# Altium schematic symbol library ALTR-10M08DA-U324.SchLib: 1 symbol
Pins are listed as number, name and electrical type; pins without a type are passive.

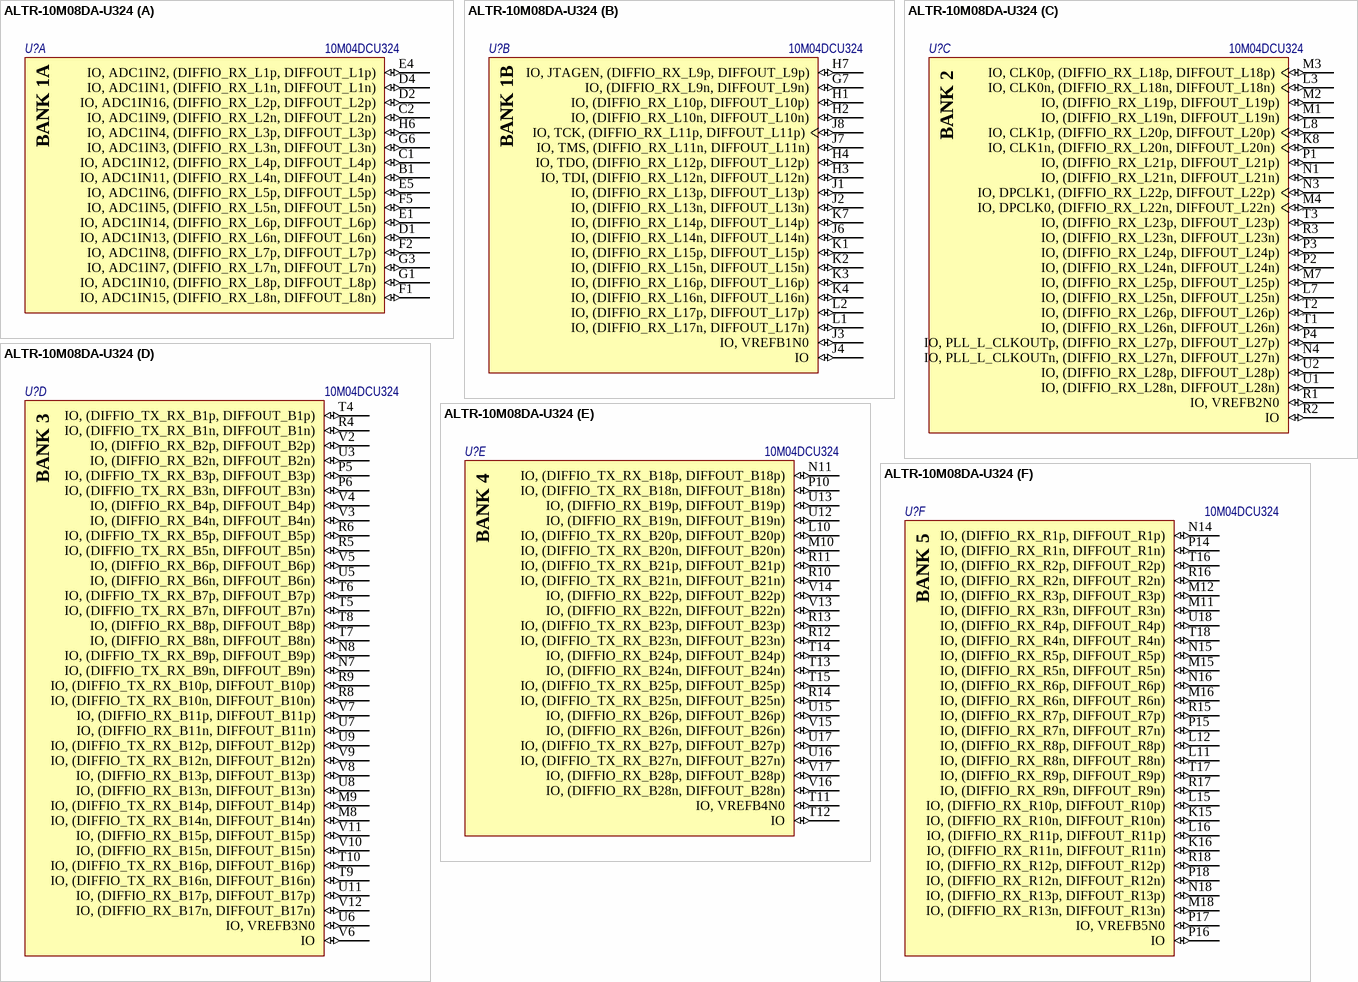
[diagram p0: symbol ALTR-10M08DA-U324]

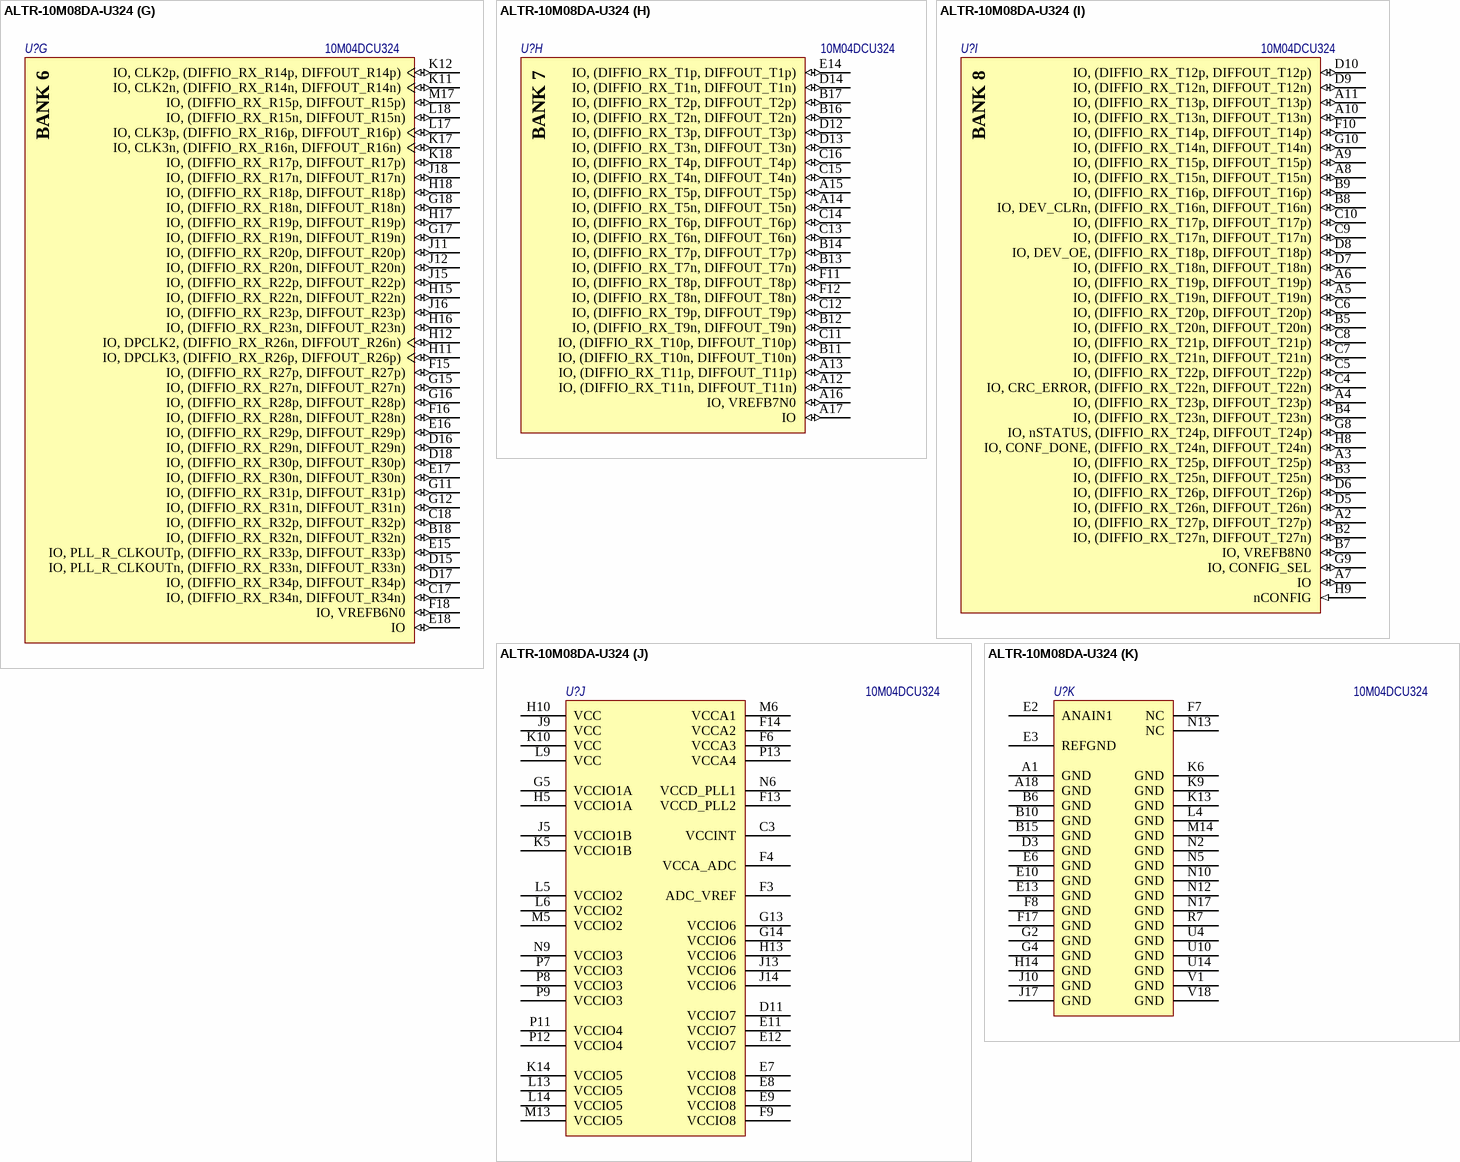
[diagram p1: symbol ALTR-10M08DA-U324]

## ALTR-10M08DA-U324
designator U?, comment Наименование: 10M04DCU324  (hidden comment: 10M08DAU324C8G)
MAX 10 Family, 1.15 to 1.25 V Supply, 246 I/O Pins, 8000 Logic Elements, 324-Pin UBGA, Speed Grade 8, Commercial Temperature, RoHS; Supply Voltage Max: 1.25 V; Number of LABs/CLBs: 500; Block RAM: 378 Kbits; Number of Logic Elements/Cells: 8000; Number of I/Os: 246; Supply Voltage Min: 1.15 V; Потребление, Вт: 2.0 (TBM); Temperature Max: 85 degC; Mounting Technology: Surface Mount; Device Pin-Out URL: https://www.altera.com/content/dam/altera-www/global/en_US/pdfs/literature/dp/max-10/10m08da.xls; PackageVersion: Rev. 3.0, 10/2014; ComponentLink2Description: Datasheet; ComponentLink1Description: Manufacturer URL; PackageDescription: 324-Pin Ultra FineLine Ball-Grid Array (UBGA), Body 15 x 15 mm, Pitch 0.8 mm; ComponentLink1URL: https://www.altera.com/; RoHS: TRUE; ComponentLink3Description: Package Specification; ComponentLink3URL: http://wl.altera.com/devicepackaging/04R00474-02.pdf; Temperature Min: 0 degC; PartNumber: 10M08DAU324; Code_JEDEC: MO-275; ComponentLink2URL: https://www.altera.com/content/dam/altera-www/global/en_US/pdfs/literature/hb/max-10/m10_datasheet.pdf; Назначение: MAX 10 Family, 1.15 to 1.25 V Supply, 246 I/O Pins, 8000 Logic Elements, 324-Pin UBGA, Speed Grade 8, Commercial Temperature, RoHS
footprint UBGA-324 (BGA, 324-Balls, Body 15x15mm, Pitch 0.8mm)
part A pins: B1 IO, ADC1IN11, (DIFFIO_RX_L4n, DIFFOUT_L4n) (io), C1 IO, ADC1IN12, (DIFFIO_RX_L4p, DIFFOUT_L4p) (io), C2 IO, ADC1IN9, (DIFFIO_RX_L2n, DIFFOUT_L2n) (io), D1 IO, ADC1IN13, (DIFFIO_RX_L6n, DIFFOUT_L6n) (io), D2 IO, ADC1IN16, (DIFFIO_RX_L2p, DIFFOUT_L2p) (io), D4 IO, ADC1IN1, (DIFFIO_RX_L1n, DIFFOUT_L1n) (io), E1 IO, ADC1IN14, (DIFFIO_RX_L6p, DIFFOUT_L6p) (io), E4 IO, ADC1IN2, (DIFFIO_RX_L1p, DIFFOUT_L1p) (io), E5 IO, ADC1IN6, (DIFFIO_RX_L5p, DIFFOUT_L5p) (io), F1 IO, ADC1IN15, (DIFFIO_RX_L8n, DIFFOUT_L8n) (io), F2 IO, ADC1IN8, (DIFFIO_RX_L7p, DIFFOUT_L7p) (io), F5 IO, ADC1IN5, (DIFFIO_RX_L5n, DIFFOUT_L5n) (io), G1 IO, ADC1IN10, (DIFFIO_RX_L8p, DIFFOUT_L8p) (io), G3 IO, ADC1IN7, (DIFFIO_RX_L7n, DIFFOUT_L7n) (io), G6 IO, ADC1IN3, (DIFFIO_RX_L3n, DIFFOUT_L3n) (io), H6 IO, ADC1IN4, (DIFFIO_RX_L3p, DIFFOUT_L3p) (io)
part B pins: G7 IO, (DIFFIO_RX_L9n, DIFFOUT_L9n) (io), H1 IO, (DIFFIO_RX_L10p, DIFFOUT_L10p) (io), H2 IO, (DIFFIO_RX_L10n, DIFFOUT_L10n) (io), H3 IO, TDI, (DIFFIO_RX_L12n, DIFFOUT_L12n) (io), H4 IO, TDO, (DIFFIO_RX_L12p, DIFFOUT_L12p) (io), H7 IO, JTAGEN, (DIFFIO_RX_L9p, DIFFOUT_L9p) (io), J1 IO, (DIFFIO_RX_L13p, DIFFOUT_L13p) (io), J2 IO, (DIFFIO_RX_L13n, DIFFOUT_L13n) (io), J3 IO, VREFB1N0 (io), J4 IO (io), J6 IO, (DIFFIO_RX_L14n, DIFFOUT_L14n) (io), J7 IO, TMS, (DIFFIO_RX_L11n, DIFFOUT_L11n) (io), J8 IO, TCK, (DIFFIO_RX_L11p, DIFFOUT_L11p) (io), K1 IO, (DIFFIO_RX_L15p, DIFFOUT_L15p) (io), K2 IO, (DIFFIO_RX_L15n, DIFFOUT_L15n) (io), K3 IO, (DIFFIO_RX_L16p, DIFFOUT_L16p) (io), K4 IO, (DIFFIO_RX_L16n, DIFFOUT_L16n) (io), K7 IO, (DIFFIO_RX_L14p, DIFFOUT_L14p) (io), L1 IO, (DIFFIO_RX_L17n, DIFFOUT_L17n) (io), L2 IO, (DIFFIO_RX_L17p, DIFFOUT_L17p) (io)
part C pins: K8 IO, CLK1n, (DIFFIO_RX_L20n, DIFFOUT_L20n) (io), L3 IO, CLK0n, (DIFFIO_RX_L18n, DIFFOUT_L18n) (io), L7 IO, (DIFFIO_RX_L25n, DIFFOUT_L25n) (io), L8 IO, CLK1p, (DIFFIO_RX_L20p, DIFFOUT_L20p) (io), M1 IO, (DIFFIO_RX_L19n, DIFFOUT_L19n) (io), M2 IO, (DIFFIO_RX_L19p, DIFFOUT_L19p) (io), M3 IO, CLK0p, (DIFFIO_RX_L18p, DIFFOUT_L18p) (io), M4 IO, DPCLK0, (DIFFIO_RX_L22n, DIFFOUT_L22n) (io), M7 IO, (DIFFIO_RX_L25p, DIFFOUT_L25p) (io), N1 IO, (DIFFIO_RX_L21n, DIFFOUT_L21n) (io), N3 IO, DPCLK1, (DIFFIO_RX_L22p, DIFFOUT_L22p) (io), N4 IO, PLL_L_CLKOUTn, (DIFFIO_RX_L27n, DIFFOUT_L27n) (io), P1 IO, (DIFFIO_RX_L21p, DIFFOUT_L21p) (io), P2 IO, (DIFFIO_RX_L24n, DIFFOUT_L24n) (io), P3 IO, (DIFFIO_RX_L24p, DIFFOUT_L24p) (io), P4 IO, PLL_L_CLKOUTp, (DIFFIO_RX_L27p, DIFFOUT_L27p) (io), R1 IO, VREFB2N0 (io), R2 IO (io), R3 IO, (DIFFIO_RX_L23n, DIFFOUT_L23n) (io), T1 IO, (DIFFIO_RX_L26n, DIFFOUT_L26n) (io), T2 IO, (DIFFIO_RX_L26p, DIFFOUT_L26p) (io), T3 IO, (DIFFIO_RX_L23p, DIFFOUT_L23p) (io), U1 IO, (DIFFIO_RX_L28n, DIFFOUT_L28n) (io), U2 IO, (DIFFIO_RX_L28p, DIFFOUT_L28p) (io)
part D pins: M8 IO, (DIFFIO_TX_RX_B14n, DIFFOUT_B14n) (io), M9 IO, (DIFFIO_TX_RX_B14p, DIFFOUT_B14p) (io), N7 IO, (DIFFIO_TX_RX_B9n, DIFFOUT_B9n) (io), N8 IO, (DIFFIO_TX_RX_B9p, DIFFOUT_B9p) (io), P5 IO, (DIFFIO_TX_RX_B3p, DIFFOUT_B3p) (io), P6 IO, (DIFFIO_TX_RX_B3n, DIFFOUT_B3n) (io), R4 IO, (DIFFIO_TX_RX_B1n, DIFFOUT_B1n) (io), R5 IO, (DIFFIO_TX_RX_B5n, DIFFOUT_B5n) (io), R6 IO, (DIFFIO_TX_RX_B5p, DIFFOUT_B5p) (io), R8 IO, (DIFFIO_TX_RX_B10n, DIFFOUT_B10n) (io), R9 IO, (DIFFIO_TX_RX_B10p, DIFFOUT_B10p) (io), T4 IO, (DIFFIO_TX_RX_B1p, DIFFOUT_B1p) (io), T5 IO, (DIFFIO_TX_RX_B7n, DIFFOUT_B7n) (io), T6 IO, (DIFFIO_TX_RX_B7p, DIFFOUT_B7p) (io), T7 IO, (DIFFIO_RX_B8n, DIFFOUT_B8n) (io), T8 IO, (DIFFIO_RX_B8p, DIFFOUT_B8p) (io), T9 IO, (DIFFIO_TX_RX_B16n, DIFFOUT_B16n) (io), T10 IO, (DIFFIO_TX_RX_B16p, DIFFOUT_B16p) (io), U3 IO, (DIFFIO_RX_B2n, DIFFOUT_B2n) (io), U5 IO, (DIFFIO_RX_B6n, DIFFOUT_B6n) (io), U6 IO, VREFB3N0 (io), U7 IO, (DIFFIO_RX_B11n, DIFFOUT_B11n) (io), U8 IO, (DIFFIO_RX_B13n, DIFFOUT_B13n) (io), U9 IO, (DIFFIO_TX_RX_B12p, DIFFOUT_B12p) (io), U11 IO, (DIFFIO_RX_B17p, DIFFOUT_B17p) (io), V2 IO, (DIFFIO_RX_B2p, DIFFOUT_B2p) (io), V3 IO, (DIFFIO_RX_B4n, DIFFOUT_B4n) (io), V4 IO, (DIFFIO_RX_B4p, DIFFOUT_B4p) (io), V5 IO, (DIFFIO_RX_B6p, DIFFOUT_B6p) (io), V6 IO (io), V7 IO, (DIFFIO_RX_B11p, DIFFOUT_B11p) (io), V8 IO, (DIFFIO_RX_B13p, DIFFOUT_B13p) (io), V9 IO, (DIFFIO_TX_RX_B12n, DIFFOUT_B12n) (io), V10 IO, (DIFFIO_RX_B15n, DIFFOUT_B15n) (io), V11 IO, (DIFFIO_RX_B15p, DIFFOUT_B15p) (io), V12 IO, (DIFFIO_RX_B17n, DIFFOUT_B17n) (io)
part E pins: L10 IO, (DIFFIO_TX_RX_B20p, DIFFOUT_B20p) (io), M10 IO, (DIFFIO_TX_RX_B20n, DIFFOUT_B20n) (io), N11 IO, (DIFFIO_TX_RX_B18p, DIFFOUT_B18p) (io), P10 IO, (DIFFIO_TX_RX_B18n, DIFFOUT_B18n) (io), R10 IO, (DIFFIO_TX_RX_B21n, DIFFOUT_B21n) (io), R11 IO, (DIFFIO_TX_RX_B21p, DIFFOUT_B21p) (io), R12 IO, (DIFFIO_TX_RX_B23n, DIFFOUT_B23n) (io), R13 IO, (DIFFIO_TX_RX_B23p, DIFFOUT_B23p) (io), R14 IO, (DIFFIO_TX_RX_B25n, DIFFOUT_B25n) (io), T11 IO, VREFB4N0 (io), T12 IO (io), T13 IO, (DIFFIO_RX_B24n, DIFFOUT_B24n) (io), T14 IO, (DIFFIO_RX_B24p, DIFFOUT_B24p) (io), T15 IO, (DIFFIO_TX_RX_B25p, DIFFOUT_B25p) (io), U12 IO, (DIFFIO_RX_B19n, DIFFOUT_B19n) (io), U13 IO, (DIFFIO_RX_B19p, DIFFOUT_B19p) (io), U15 IO, (DIFFIO_RX_B26p, DIFFOUT_B26p) (io), U16 IO, (DIFFIO_TX_RX_B27n, DIFFOUT_B27n) (io), U17 IO, (DIFFIO_TX_RX_B27p, DIFFOUT_B27p) (io), V13 IO, (DIFFIO_RX_B22n, DIFFOUT_B22n) (io), V14 IO, (DIFFIO_RX_B22p, DIFFOUT_B22p) (io), V15 IO, (DIFFIO_RX_B26n, DIFFOUT_B26n) (io), V16 IO, (DIFFIO_RX_B28n, DIFFOUT_B28n) (io), V17 IO, (DIFFIO_RX_B28p, DIFFOUT_B28p) (io)
part F pins: K15 IO, (DIFFIO_RX_R10n, DIFFOUT_R10n) (io), K16 IO, (DIFFIO_RX_R11n, DIFFOUT_R11n) (io), L11 IO, (DIFFIO_RX_R8n, DIFFOUT_R8n) (io), L12 IO, (DIFFIO_RX_R8p, DIFFOUT_R8p) (io), L15 IO, (DIFFIO_RX_R10p, DIFFOUT_R10p) (io), L16 IO, (DIFFIO_RX_R11p, DIFFOUT_R11p) (io), M11 IO, (DIFFIO_RX_R3n, DIFFOUT_R3n) (io), M12 IO, (DIFFIO_RX_R3p, DIFFOUT_R3p) (io), M15 IO, (DIFFIO_RX_R5n, DIFFOUT_R5n) (io), M16 IO, (DIFFIO_RX_R6n, DIFFOUT_R6n) (io), M18 IO, (DIFFIO_RX_R13n, DIFFOUT_R13n) (io), N14 IO, (DIFFIO_RX_R1p, DIFFOUT_R1p) (io), N15 IO, (DIFFIO_RX_R5p, DIFFOUT_R5p) (io), N16 IO, (DIFFIO_RX_R6p, DIFFOUT_R6p) (io), N18 IO, (DIFFIO_RX_R13p, DIFFOUT_R13p) (io), P14 IO, (DIFFIO_RX_R1n, DIFFOUT_R1n) (io), P15 IO, (DIFFIO_RX_R7n, DIFFOUT_R7n) (io), P16 IO (io), P17 IO, VREFB5N0 (io), P18 IO, (DIFFIO_RX_R12n, DIFFOUT_R12n) (io), R15 IO, (DIFFIO_RX_R7p, DIFFOUT_R7p) (io), R16 IO, (DIFFIO_RX_R2n, DIFFOUT_R2n) (io), R17 IO, (DIFFIO_RX_R9n, DIFFOUT_R9n) (io), R18 IO, (DIFFIO_RX_R12p, DIFFOUT_R12p) (io), T16 IO, (DIFFIO_RX_R2p, DIFFOUT_R2p) (io), T17 IO, (DIFFIO_RX_R9p, DIFFOUT_R9p) (io), T18 IO, (DIFFIO_RX_R4n, DIFFOUT_R4n) (io), U18 IO, (DIFFIO_RX_R4p, DIFFOUT_R4p) (io)
part G pins: B18 IO, (DIFFIO_RX_R32n, DIFFOUT_R32n) (io), C17 IO, (DIFFIO_RX_R34n, DIFFOUT_R34n) (io), C18 IO, (DIFFIO_RX_R32p, DIFFOUT_R32p) (io), D15 IO, PLL_R_CLKOUTn, (DIFFIO_RX_R33n, DIFFOUT_R33n) (io), D16 IO, (DIFFIO_RX_R29n, DIFFOUT_R29n) (io), D17 IO, (DIFFIO_RX_R34p, DIFFOUT_R34p) (io), D18 IO, (DIFFIO_RX_R30p, DIFFOUT_R30p) (io), E15 IO, PLL_R_CLKOUTp, (DIFFIO_RX_R33p, DIFFOUT_R33p) (io), E16 IO, (DIFFIO_RX_R29p, DIFFOUT_R29p) (io), E17 IO, (DIFFIO_RX_R30n, DIFFOUT_R30n) (io), E18 IO (io), F15 IO, (DIFFIO_RX_R27p, DIFFOUT_R27p) (io), F16 IO, (DIFFIO_RX_R28n, DIFFOUT_R28n) (io), F18 IO, VREFB6N0 (io), G11 IO, (DIFFIO_RX_R31p, DIFFOUT_R31p) (io), G12 IO, (DIFFIO_RX_R31n, DIFFOUT_R31n) (io), G15 IO, (DIFFIO_RX_R27n, DIFFOUT_R27n) (io), G16 IO, (DIFFIO_RX_R28p, DIFFOUT_R28p) (io), G17 IO, (DIFFIO_RX_R19n, DIFFOUT_R19n) (io), G18 IO, (DIFFIO_RX_R18n, DIFFOUT_R18n) (io), H11 IO, DPCLK3, (DIFFIO_RX_R26p, DIFFOUT_R26p) (io), H12 IO, DPCLK2, (DIFFIO_RX_R26n, DIFFOUT_R26n) (io), H15 IO, (DIFFIO_RX_R22n, DIFFOUT_R22n) (io), H16 IO, (DIFFIO_RX_R23n, DIFFOUT_R23n) (io), H17 IO, (DIFFIO_RX_R19p, DIFFOUT_R19p) (io), H18 IO, (DIFFIO_RX_R18p, DIFFOUT_R18p) (io), J11 IO, (DIFFIO_RX_R20p, DIFFOUT_R20p) (io), J12 IO, (DIFFIO_RX_R20n, DIFFOUT_R20n) (io), J15 IO, (DIFFIO_RX_R22p, DIFFOUT_R22p) (io), J16 IO, (DIFFIO_RX_R23p, DIFFOUT_R23p) (io), J18 IO, (DIFFIO_RX_R17n, DIFFOUT_R17n) (io), K11 IO, CLK2n, (DIFFIO_RX_R14n, DIFFOUT_R14n) (io), K12 IO, CLK2p, (DIFFIO_RX_R14p, DIFFOUT_R14p) (io), K17 IO, CLK3n, (DIFFIO_RX_R16n, DIFFOUT_R16n) (io), K18 IO, (DIFFIO_RX_R17p, DIFFOUT_R17p) (io), L17 IO, CLK3p, (DIFFIO_RX_R16p, DIFFOUT_R16p) (io), L18 IO, (DIFFIO_RX_R15n, DIFFOUT_R15n) (io), M17 IO, (DIFFIO_RX_R15p, DIFFOUT_R15p) (io)
part H pins: A12 IO, (DIFFIO_RX_T11n, DIFFOUT_T11n) (io), A13 IO, (DIFFIO_RX_T11p, DIFFOUT_T11p) (io), A14 IO, (DIFFIO_RX_T5n, DIFFOUT_T5n) (io), A15 IO, (DIFFIO_RX_T5p, DIFFOUT_T5p) (io), A16 IO, VREFB7N0 (io), A17 IO (io), B11 IO, (DIFFIO_RX_T10n, DIFFOUT_T10n) (io), B12 IO, (DIFFIO_RX_T9n, DIFFOUT_T9n) (io), B13 IO, (DIFFIO_RX_T7n, DIFFOUT_T7n) (io), B14 IO, (DIFFIO_RX_T7p, DIFFOUT_T7p) (io), B16 IO, (DIFFIO_RX_T2n, DIFFOUT_T2n) (io), B17 IO, (DIFFIO_RX_T2p, DIFFOUT_T2p) (io), C11 IO, (DIFFIO_RX_T10p, DIFFOUT_T10p) (io), C12 IO, (DIFFIO_RX_T9p, DIFFOUT_T9p) (io), C13 IO, (DIFFIO_RX_T6n, DIFFOUT_T6n) (io), C14 IO, (DIFFIO_RX_T6p, DIFFOUT_T6p) (io), C15 IO, (DIFFIO_RX_T4n, DIFFOUT_T4n) (io), C16 IO, (DIFFIO_RX_T4p, DIFFOUT_T4p) (io), D12 IO, (DIFFIO_RX_T3p, DIFFOUT_T3p) (io), D13 IO, (DIFFIO_RX_T3n, DIFFOUT_T3n) (io), D14 IO, (DIFFIO_RX_T1n, DIFFOUT_T1n) (io), E14 IO, (DIFFIO_RX_T1p, DIFFOUT_T1p) (io), F11 IO, (DIFFIO_RX_T8p, DIFFOUT_T8p) (io), F12 IO, (DIFFIO_RX_T8n, DIFFOUT_T8n) (io)
part I pins: A2 IO, (DIFFIO_RX_T27p, DIFFOUT_T27p) (io), A3 IO, (DIFFIO_RX_T25p, DIFFOUT_T25p) (io), A4 IO, (DIFFIO_RX_T23p, DIFFOUT_T23p) (io), A5 IO, (DIFFIO_RX_T19n, DIFFOUT_T19n) (io), A6 IO, (DIFFIO_RX_T19p, DIFFOUT_T19p) (io), A7 IO (io), A8 IO, (DIFFIO_RX_T15n, DIFFOUT_T15n) (io), A9 IO, (DIFFIO_RX_T15p, DIFFOUT_T15p) (io), A10 IO, (DIFFIO_RX_T13n, DIFFOUT_T13n) (io), A11 IO, (DIFFIO_RX_T13p, DIFFOUT_T13p) (io), B2 IO, (DIFFIO_RX_T27n, DIFFOUT_T27n) (io), B3 IO, (DIFFIO_RX_T25n, DIFFOUT_T25n) (io), B4 IO, (DIFFIO_RX_T23n, DIFFOUT_T23n) (io), B5 IO, (DIFFIO_RX_T20n, DIFFOUT_T20n) (io), B7 IO, VREFB8N0 (io), B8 IO, DEV_CLRn, (DIFFIO_RX_T16n, DIFFOUT_T16n) (io), B9 IO, (DIFFIO_RX_T16p, DIFFOUT_T16p) (io), C4 IO, CRC_ERROR, (DIFFIO_RX_T22n, DIFFOUT_T22n) (io), C5 IO, (DIFFIO_RX_T22p, DIFFOUT_T22p) (io), C6 IO, (DIFFIO_RX_T20p, DIFFOUT_T20p) (io), C7 IO, (DIFFIO_RX_T21n, DIFFOUT_T21n) (io), C8 IO, (DIFFIO_RX_T21p, DIFFOUT_T21p) (io), C9 IO, (DIFFIO_RX_T17n, DIFFOUT_T17n) (io), C10 IO, (DIFFIO_RX_T17p, DIFFOUT_T17p) (io), D5 IO, (DIFFIO_RX_T26n, DIFFOUT_T26n) (io), D6 IO, (DIFFIO_RX_T26p, DIFFOUT_T26p) (io), D7 IO, (DIFFIO_RX_T18n, DIFFOUT_T18n) (io), D8 IO, DEV_OE, (DIFFIO_RX_T18p, DIFFOUT_T18p) (io), D9 IO, (DIFFIO_RX_T12n, DIFFOUT_T12n) (io), D10 IO, (DIFFIO_RX_T12p, DIFFOUT_T12p) (io), F10 IO, (DIFFIO_RX_T14p, DIFFOUT_T14p) (io), G8 IO, nSTATUS, (DIFFIO_RX_T24p, DIFFOUT_T24p) (io), G9 IO, CONFIG_SEL (io), G10 IO, (DIFFIO_RX_T14n, DIFFOUT_T14n) (io), H8 IO, CONF_DONE, (DIFFIO_RX_T24n, DIFFOUT_T24n) (io), H9 nCONFIG (in)
part J pins: C3 VCCINT (power), D11 VCCIO7 (power), E7 VCCIO8 (power), E8 VCCIO8 (power), E9 VCCIO8 (power), E11 VCCIO7 (power), E12 VCCIO7 (power), F3 ADC_VREF (power), F4 VCCA_ADC (power), F6 VCCA3 (power), F9 VCCIO8 (power), F13 VCCD_PLL2 (power), F14 VCCA2 (power), G5 VCCIO1A (power), G13 VCCIO6 (power), G14 VCCIO6 (power), H5 VCCIO1A (power), H10 VCC (power), H13 VCCIO6 (power), J5 VCCIO1B (power), J9 VCC (power), J13 VCCIO6 (power), J14 VCCIO6 (power), K5 VCCIO1B (power), K10 VCC (power), K14 VCCIO5 (power), L5 VCCIO2 (power), L6 VCCIO2 (power), L9 VCC (power), L13 VCCIO5 (power), L14 VCCIO5 (power), M5 VCCIO2 (power), M6 VCCA1 (power), M13 VCCIO5 (power), N6 VCCD_PLL1 (power), N9 VCCIO3 (power), P7 VCCIO3 (power), P8 VCCIO3 (power), P9 VCCIO3 (power), P11 VCCIO4 (power), P12 VCCIO4 (power), P13 VCCA4 (power)
part K pins: A1 GND (power), A18 GND (power), B6 GND (power), B10 GND (power), B15 GND (power), D3 GND (power), E2 ANAIN1, E3 REFGND (power), E6 GND (power), E10 GND (power), E13 GND (power), F7 NC, F8 GND (power), F17 GND (power), G2 GND (power), G4 GND (power), H14 GND (power), J10 GND (power), J17 GND (power), K6 GND (power), K9 GND (power), K13 GND (power), L4 GND (power), M14 GND (power), N2 GND (power), N5 GND (power), N10 GND (power), N12 GND (power), N13 NC, N17 GND (power), R7 GND (power), U4 GND (power), U10 GND (power), U14 GND (power), V1 GND (power), V18 GND (power)
part A text: BANK 1A
part B text: BANK 1B
part C text: BANK 2
part D text: BANK 3
part E text: BANK 4
part F text: BANK 5
part G text: BANK 6
part H text: BANK 7
part I text: BANK 8